# EAGLE library part MOTION/POSITION-MMA7660FCR1(DFN10) (library Seeed-OPL-sensor)
314080009
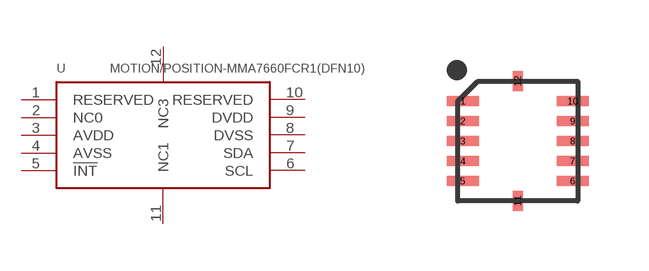
[diagram p20: symbol with the pads of DFN10-0.5-3.0X3.0MM; footprint DFN10-0.5-3.0X3.0MM]

Designator prefix U

## MOTION/POSITION-MMA7660FCR1(DFN10) (MPN: MMA7660FCR1; VALUE: MMA7660FCR1)  [DFN10-0.5-3.0X3.0MM]
1  RESERVED
2  NC0  nc
3  AVDD  pwr
4  AVSS  pwr
5  !INT
6  SCL
7  SDA
8  DVSS
9  DVDD
10  RESERVED
11  NC1  nc
12  NC3  nc

## Footprint DFN10-0.5-3.0X3.0MM (pad centres in mm)
smd 0.8 x 0.25: 1 -1.375,1; 2 -1.375,0.5; 3 -1.375,0; 4 -1.375,-0.5; 5 -1.375,-1; 6 1.375,-1; 7 1.375,-0.5; 8 1.375,0; 9 1.375,0.5; 10 1.375,1
smd 0.25 x 0.5: 11 0,-1.5; 12 0,1.5